# Altium integrated library SparkFun-Connectors.IntLib: 326 symbols (part 3 of 3)
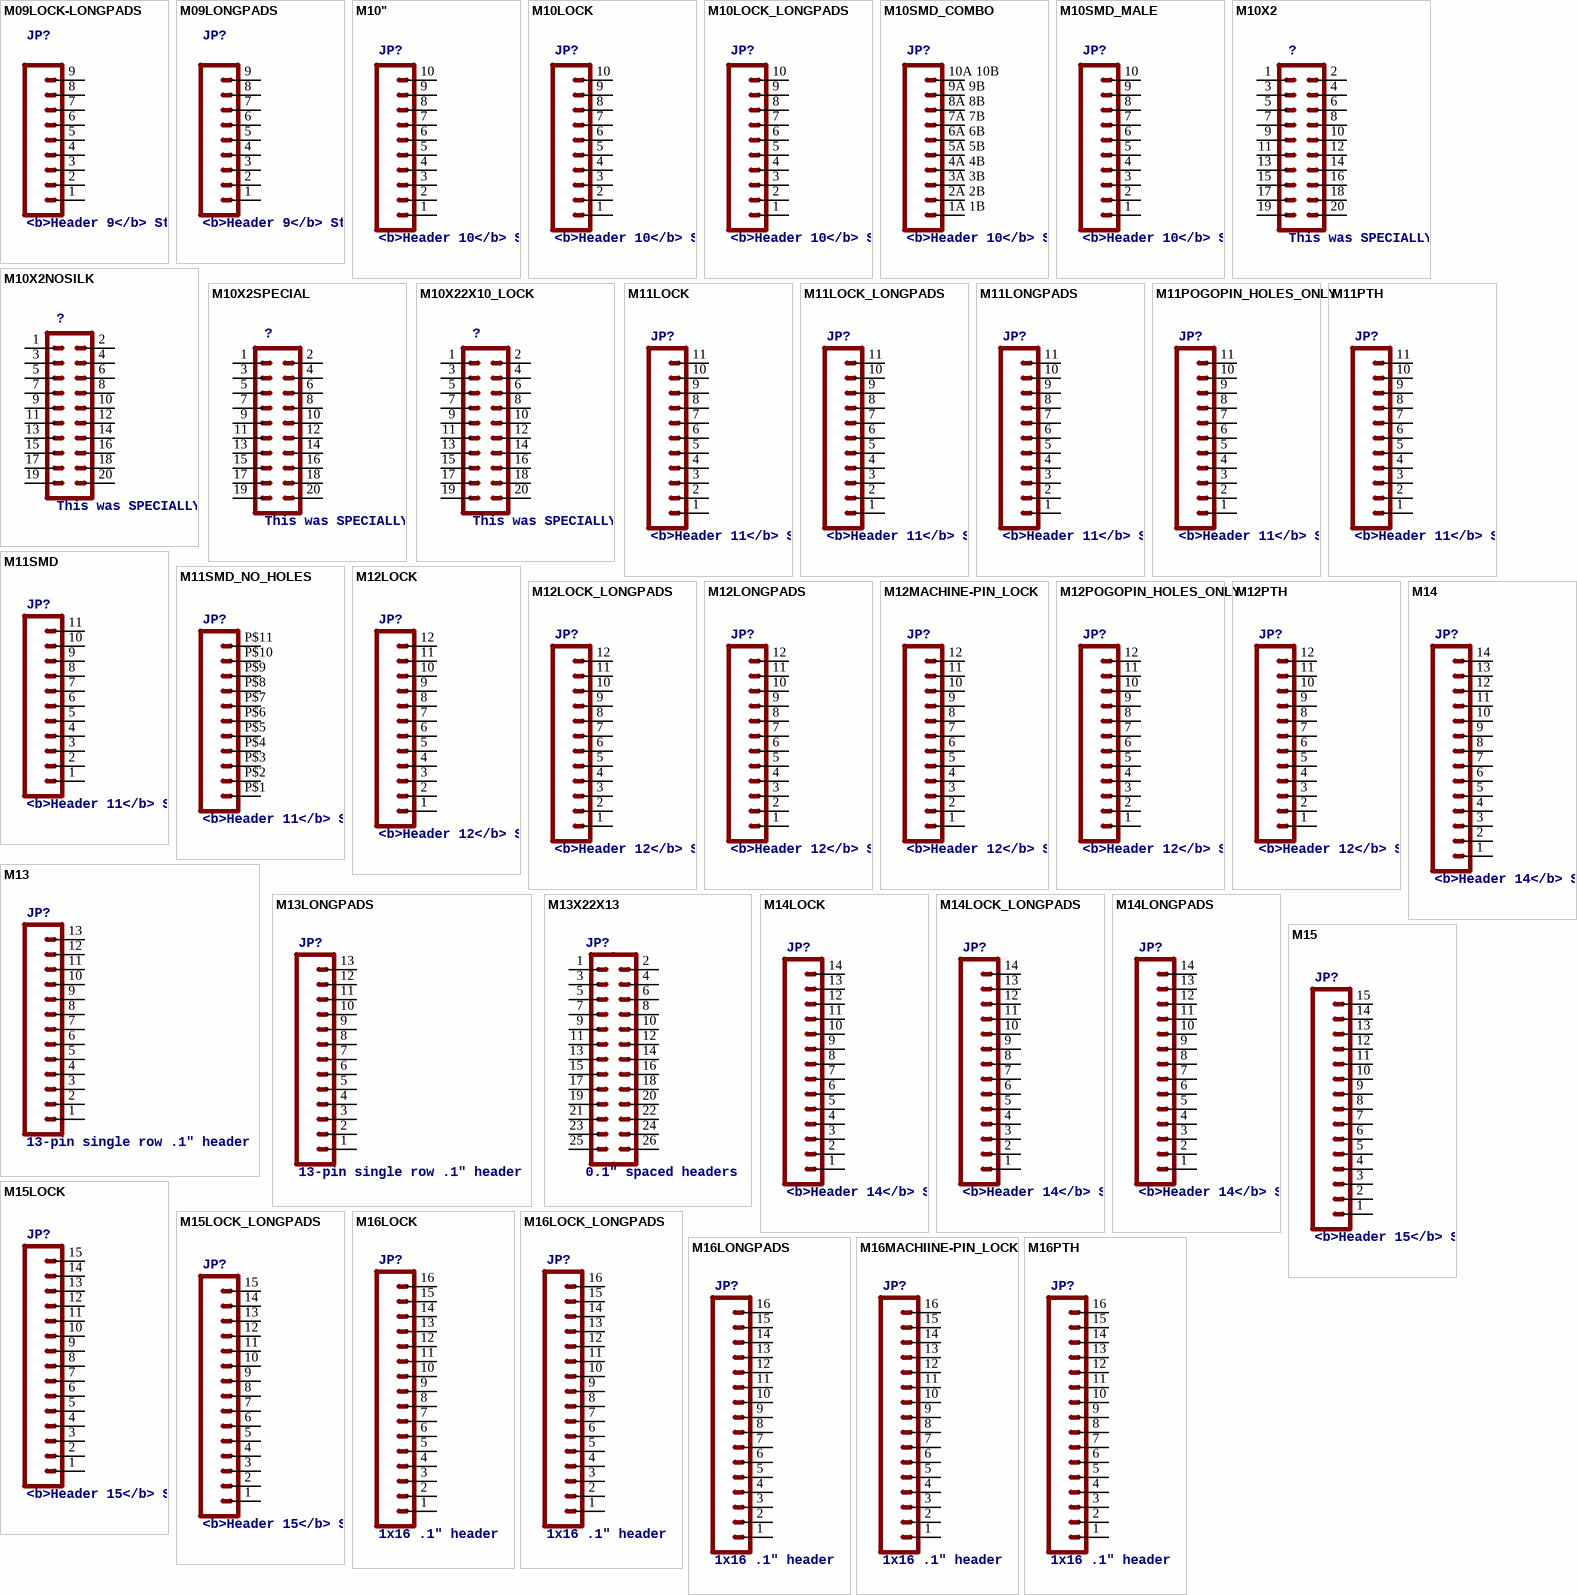
[diagram p11: symbols M09LOCK-LONGPADS to M16PTH]

## M14LONGPADS
designator JP?, comment <b>Header 14</b> / Standard 14-pin 0.1" header. Use with straight break away headers (SKU : PRT-00116), right angle break away headers (PRT-00553), swiss pins (PRT-00743), machine pins (PRT-00117), and female headers (PRT-00115).
footprint 1X14-LONGPADS
pins: 1, 2, 3, 4, 5, 6, 7, 8, 9, 10, 11, 12, 13, 14

## M15
designator JP?, comment <b>Header 15</b> / Standard 15-pin 0.1" header. Use with straight break away headers (SKU : PRT-00116), right angle break away headers (PRT-00553), swiss pins (PRT-00743), machine pins (PRT-00117), and female headers (PRT-00115).
footprint 1X15
pins: 1, 2, 3, 4, 5, 6, 7, 8, 9, 10, 11, 12, 13, 14, 15

## M15LOCK
designator JP?, comment <b>Header 15</b> / Standard 15-pin 0.1" header. Use with straight break away headers (SKU : PRT-00116), right angle break away headers (PRT-00553), swiss pins (PRT-00743), machine pins (PRT-00117), and female headers (PRT-00115).
footprint 1X15_LOCK
pins: 1, 2, 3, 4, 5, 6, 7, 8, 9, 10, 11, 12, 13, 14, 15

## M15LOCK_LONGPADS
designator JP?, comment <b>Header 15</b> / Standard 15-pin 0.1" header. Use with straight break away headers (SKU : PRT-00116), right angle break away headers (PRT-00553), swiss pins (PRT-00743), machine pins (PRT-00117), and female headers (PRT-00115).
footprint 1X15_LOCK_LONGPADS
pins: 1, 2, 3, 4, 5, 6, 7, 8, 9, 10, 11, 12, 13, 14, 15

## M16LOCK
designator JP?, comment 1x16 .1" header
footprint 1X16_LOCK
pins: 1, 2, 3, 4, 5, 6, 7, 8, 9, 10, 11, 12, 13, 14, 15, 16

## M16LOCK_LONGPADS
designator JP?, comment 1x16 .1" header
footprint 1X16_LOCK_LONGPADS
pins: 1, 2, 3, 4, 5, 6, 7, 8, 9, 10, 11, 12, 13, 14, 15, 16

## M16LONGPADS
designator JP?, comment 1x16 .1" header
footprint 1X16_LONGPADS
pins: 1, 2, 3, 4, 5, 6, 7, 8, 9, 10, 11, 12, 13, 14, 15, 16

## M16MACHIINE-PIN_LOCK
designator JP?, comment 1x16 .1" header
footprint 1X16_MACHINE-PIN-HEADER_LOCK.004
pins: 1, 2, 3, 4, 5, 6, 7, 8, 9, 10, 11, 12, 13, 14, 15, 16

## M16PTH
designator JP?, comment 1x16 .1" header
footprint 1X16
pins: 1, 2, 3, 4, 5, 6, 7, 8, 9, 10, 11, 12, 13, 14, 15, 16

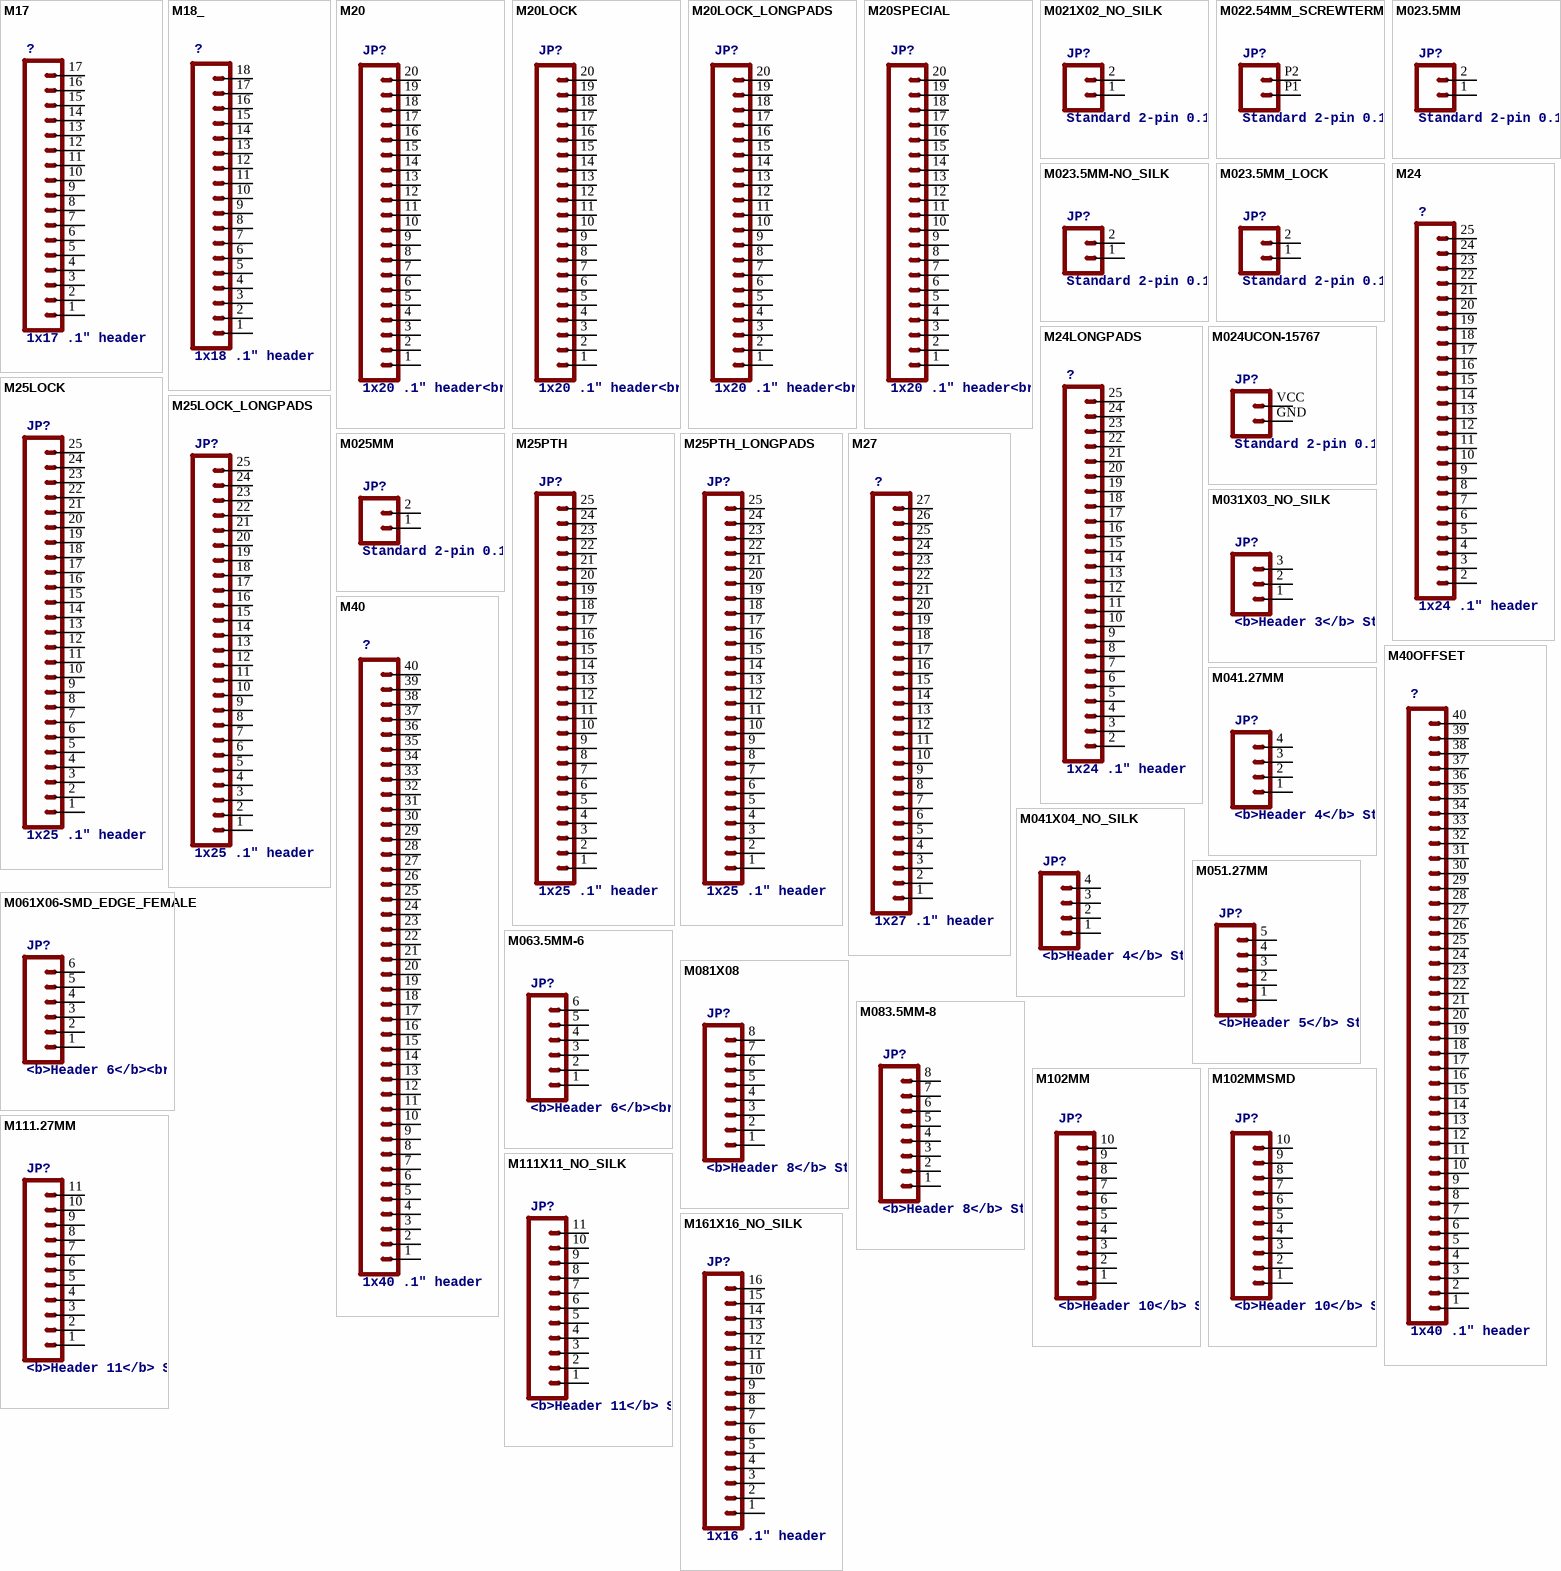
[diagram p6: symbols M17 to M161X16_NO_SILK]

## M17
designator ?, comment 1x17 .1" header
footprint 1X17
pins: 1, 2, 3, 4, 5, 6, 7, 8, 9, 10, 11, 12, 13, 14, 15, 16, 17

## M18_
designator ?, comment 1x18 .1" header
footprint 1X18
pins: 1, 2, 3, 4, 5, 6, 7, 8, 9, 10, 11, 12, 13, 14, 15, 16, 17, 18

## M20
designator JP?, comment 1x20 .1" header<br> / This is just like the LOCK variant in that the holes are staggared by 5 mil, but except for the last two holes.  They are not altered from the "standard" footprint layout.  This is used for a special purpose on the layout of our Graphic LCD Backpack.  Make sure you want to use this device before selecting it for you project!
footprint 1X20
pins: 1, 2, 3, 4, 5, 6, 7, 8, 9, 10, 11, 12, 13, 14, 15, 16, 17, 18, 19, 20

## M20LOCK
designator JP?, comment 1x20 .1" header<br> / This is just like the LOCK variant in that the holes are staggared by 5 mil, but except for the last two holes.  They are not altered from the "standard" footprint layout.  This is used for a special purpose on the layout of our Graphic LCD Backpack.  Make sure you want to use this device before selecting it for you project!
footprint 1X20_LOCK
pins: 1, 2, 3, 4, 5, 6, 7, 8, 9, 10, 11, 12, 13, 14, 15, 16, 17, 18, 19, 20

## M20LOCK_LONGPADS
designator JP?, comment 1x20 .1" header<br> / This is just like the LOCK variant in that the holes are staggared by 5 mil, but except for the last two holes.  They are not altered from the "standard" footprint layout.  This is used for a special purpose on the layout of our Graphic LCD Backpack.  Make sure you want to use this device before selecting it for you project!
footprint 1X20_LOCK_LONGPADS
pins: 1, 2, 3, 4, 5, 6, 7, 8, 9, 10, 11, 12, 13, 14, 15, 16, 17, 18, 19, 20

## M20SPECIAL
designator JP?, comment 1x20 .1" header<br> / This is just like the LOCK variant in that the holes are staggared by 5 mil, but except for the last two holes.  They are not altered from the "standard" footprint layout.  This is used for a special purpose on the layout of our Graphic LCD Backpack.  Make sure you want to use this device before selecting it for you project!
footprint 1X20_LOCK_SPECIAL
pins: 1, 2, 3, 4, 5, 6, 7, 8, 9, 10, 11, 12, 13, 14, 15, 16, 17, 18, 19, 20

## M021X02_NO_SILK
designator JP?, comment Standard 2-pin 0.1" header. Use with <br> / - straight break away headers ( PRT-00116)<br> / - right angle break away headers (PRT-00553)<br> / - swiss pins (PRT-00743)<br> / - machine pins (PRT-00117)<br> / - female headers (PRT-00115)<br><br> / Molex polarized connector foot print use with: PRT-08233 with associated crimp pins and housings.<br><br> / 2.54_SCREWTERM for use with  PRT-10571.<br><br> / 3.5mm Screw Terminal footprints for  PRT-08084<br><br> / 5mm Screw Terminal footprints for use with PRT-08433
footprint 1X02_NO_SILK
pins: 1, 2

## M022.54MM_SCREWTERM
designator JP?, comment Standard 2-pin 0.1" header. Use with <br> / - straight break away headers ( PRT-00116)<br> / - right angle break away headers (PRT-00553)<br> / - swiss pins (PRT-00743)<br> / - machine pins (PRT-00117)<br> / - female headers (PRT-00115)<br><br> / Molex polarized connector foot print use with: PRT-08233 with associated crimp pins and housings.<br><br> / 2.54_SCREWTERM for use with  PRT-10571.<br><br> / 3.5mm Screw Terminal footprints for  PRT-08084<br><br> / 5mm Screw Terminal footprints for use with PRT-08433
footprint 1X02_2.54_SCREWTERM
pins: P1 1, P2 2

## M023.5MM
designator JP?, comment Standard 2-pin 0.1" header. Use with <br> / - straight break away headers ( PRT-00116)<br> / - right angle break away headers (PRT-00553)<br> / - swiss pins (PRT-00743)<br> / - machine pins (PRT-00117)<br> / - female headers (PRT-00115)<br><br> / Molex polarized connector foot print use with: PRT-08233 with associated crimp pins and housings.<br><br> / 2.54_SCREWTERM for use with  PRT-10571.<br><br> / 3.5mm Screw Terminal footprints for  PRT-08084<br><br> / 5mm Screw Terminal footprints for use with PRT-08433
footprint SCREWTERMINAL-3.5MM-2
pins: 1, 2

## M023.5MM-NO_SILK
designator JP?, comment Standard 2-pin 0.1" header. Use with <br> / - straight break away headers ( PRT-00116)<br> / - right angle break away headers (PRT-00553)<br> / - swiss pins (PRT-00743)<br> / - machine pins (PRT-00117)<br> / - female headers (PRT-00115)<br><br> / Molex polarized connector foot print use with: PRT-08233 with associated crimp pins and housings.<br><br> / 2.54_SCREWTERM for use with  PRT-10571.<br><br> / 3.5mm Screw Terminal footprints for  PRT-08084<br><br> / 5mm Screw Terminal footprints for use with PRT-08433
footprint SCREWTERMINAL-3.5MM-2-NS
pins: 1, 2

## M023.5MM_LOCK
designator JP?, comment Standard 2-pin 0.1" header. Use with <br> / - straight break away headers ( PRT-00116)<br> / - right angle break away headers (PRT-00553)<br> / - swiss pins (PRT-00743)<br> / - machine pins (PRT-00117)<br> / - female headers (PRT-00115)<br><br> / Molex polarized connector foot print use with: PRT-08233 with associated crimp pins and housings.<br><br> / 2.54_SCREWTERM for use with  PRT-10571.<br><br> / 3.5mm Screw Terminal footprints for  PRT-08084<br><br> / 5mm Screw Terminal footprints for use with PRT-08433
footprint SCREWTERMINAL-3.5MM-2_LOCK
pins: 1, 2

## M24
designator ?, comment 1x24 .1" header
footprint 1X24
pins: 2, 3, 4, 5, 6, 7, 8, 9, 10, 11, 12, 13, 14, 15, 16, 17, 18, 19, 20, 21, 22, 23, 24, 25

## M24LONGPADS
designator ?, comment 1x24 .1" header
footprint 1X24_LONGPADS
pins: 2, 3, 4, 5, 6, 7, 8, 9, 10, 11, 12, 13, 14, 15, 16, 17, 18, 19, 20, 21, 22, 23, 24, 25

## M024UCON-15767
designator JP?, comment Standard 2-pin 0.1" header. Use with <br> / - straight break away headers ( PRT-00116)<br> / - right angle break away headers (PRT-00553)<br> / - swiss pins (PRT-00743)<br> / - machine pins (PRT-00117)<br> / - female headers (PRT-00115)<br><br> / Molex polarized connector foot print use with: PRT-08233 with associated crimp pins and housings.<br><br> / 2.54_SCREWTERM for use with  PRT-10571.<br><br> / 3.5mm Screw Terminal footprints for  PRT-08084<br><br> / 5mm Screw Terminal footprints for use with PRT-08433
footprint JST-2-SMD-VERT
pins: GND 1, VCC 2

## M25LOCK
designator JP?, comment 1x25 .1" header
footprint 1X25_LOCK
pins: 1, 2, 3, 4, 5, 6, 7, 8, 9, 10, 11, 12, 13, 14, 15, 16, 17, 18, 19, 20, 21, 22, 23, 24, 25

## M25LOCK_LONGPADS
designator JP?, comment 1x25 .1" header
footprint 1X25_LOCK_LONGPADS
pins: 1, 2, 3, 4, 5, 6, 7, 8, 9, 10, 11, 12, 13, 14, 15, 16, 17, 18, 19, 20, 21, 22, 23, 24, 25

## M025MM
designator JP?, comment Standard 2-pin 0.1" header. Use with <br> / - straight break away headers ( PRT-00116)<br> / - right angle break away headers (PRT-00553)<br> / - swiss pins (PRT-00743)<br> / - machine pins (PRT-00117)<br> / - female headers (PRT-00115)<br><br> / Molex polarized connector foot print use with: PRT-08233 with associated crimp pins and housings.<br><br> / 2.54_SCREWTERM for use with  PRT-10571.<br><br> / 3.5mm Screw Terminal footprints for  PRT-08084<br><br> / 5mm Screw Terminal footprints for use with PRT-08433
footprint SCREWTERMINAL-5MM-2
pins: 1, 2

## M25PTH
designator JP?, comment 1x25 .1" header
footprint 1X25
pins: 1, 2, 3, 4, 5, 6, 7, 8, 9, 10, 11, 12, 13, 14, 15, 16, 17, 18, 19, 20, 21, 22, 23, 24, 25

## M25PTH_LONGPADS
designator JP?, comment 1x25 .1" header
footprint 1X25_LONGPAD
pins: 1, 2, 3, 4, 5, 6, 7, 8, 9, 10, 11, 12, 13, 14, 15, 16, 17, 18, 19, 20, 21, 22, 23, 24, 25

## M27
designator ?, comment 1x27 .1" header
footprint 1X27
pins: 1, 2, 3, 4, 5, 6, 7, 8, 9, 10, 11, 12, 13, 14, 15, 16, 17, 18, 19, 20, 21, 22, 23, 24, 25, 26, 27

## M031X03_NO_SILK
designator JP?, comment <b>Header 3</b> / Standard 3-pin 0.1" header. Use with straight break away headers (SKU : PRT-00116), right angle break away headers (PRT-00553), swiss pins (PRT-00743), machine pins (PRT-00117), and female headers (PRT-00115). Molex polarized connector foot print use with SKU : PRT-08232 with associated crimp pins and housings.
footprint 1X03_NO_SILK
pins: 1, 2, 3

## M40
designator ?, comment 1x40 .1" header
footprint 1X40
pins: 1, 2, 3, 4, 5, 6, 7, 8, 9, 10, 11, 12, 13, 14, 15, 16, 17, 18, 19, 20, 21, 22, 23, 24, 25, 26, 27, 28, 29, 30, 31, 32, 33, 34, 35, 36, 37, 38, 39, 40

## M40OFFSET
designator ?, comment 1x40 .1" header
footprint 1X40_OFFSET
pins: 1, 2, 3, 4, 5, 6, 7, 8, 9, 10, 11, 12, 13, 14, 15, 16, 17, 18, 19, 20, 21, 22, 23, 24, 25, 26, 27, 28, 29, 30, 31, 32, 33, 34, 35, 36, 37, 38, 39, 40

## M041.27MM
designator JP?, comment <b>Header 4</b> / Standard 4-pin 0.1" header. Use with straight break away headers (SKU : PRT-00116), right angle break away headers (PRT-00553), swiss pins (PRT-00743), machine pins (PRT-00117), and female headers (PRT-00115). Molex polarized connector foot print use with SKU : PRT-08231 with associated crimp pins and housings. 1MM SMD Version SKU: PRT-10208
footprint 1X04-1.27MM
pins: 1, 2, 3, 4

## M041X04_NO_SILK
designator JP?, comment <b>Header 4</b> / Standard 4-pin 0.1" header. Use with straight break away headers (SKU : PRT-00116), right angle break away headers (PRT-00553), swiss pins (PRT-00743), machine pins (PRT-00117), and female headers (PRT-00115). Molex polarized connector foot print use with SKU : PRT-08231 with associated crimp pins and housings. 1MM SMD Version SKU: PRT-10208
footprint 1X04_NO_SILK
pins: 1, 2, 3, 4

## M051.27MM
designator JP?, comment <b>Header 5</b> / Standard 5-pin 0.1" header. Use with straight break away headers (SKU : PRT-00116), right angle break away headers (PRT-00553), swiss pins (PRT-00743), machine pins (PRT-00117), and female headers (PRT-00115). Molex polarized connector foot print use with SKU : PRT-08230 with associated crimp pins and housings.
footprint 1X05-1.27MM
pins: 1, 2, 3, 4, 5

## M061X06-SMD_EDGE_FEMALE
designator JP?, comment <b>Header 6</b><br> / Standard 6-pin 0.1" header. Use with straight break away headers (SKU : PRT-00116), right angle break away headers (PRT-00553), swiss pins (PRT-00743), machine pins (PRT-00117), and female headers (PRT-00115). Molex polarized connector foot print use with SKU : PRT-08094 with associated crimp pins and housings.<p> / NOTES ON THE VARIANTS LOCK and LOCK_LONGPADS... / This footprint was designed to help hold the alignment of a through-hole component (i.e.  6-pin header) while soldering it into place. You may notice that each hole has been shifted either up or down by 0.005 of an inch from it's more standard position (which is a perfectly straight line).  This slight alteration caused the pins (the squares in the middle) to touch the edges of the holes.  Because they are alternating, it causes a "brace" to hold the component in place.  0.005 has proven to be the perfect amount of "off-center" position when using our standard breakaway headers. Although looks a little odd when you look at the bare footprint, once you have a header in there, the alteration is very hard to notice.  Also,if you push a header all the way into place, it is covered up entirely on the bottom side.  This idea of altering the position of holes to aid alignment / will be further integrated into the Sparkfun Library for other footprints.  It can help hold any component with 3 or more connection pins.
footprint 1X06-SMD_EDGE
pins: 1, 2, 3, 4, 5, 6

## M063.5MM-6
designator JP?, comment <b>Header 6</b><br> / Standard 6-pin 0.1" header. Use with straight break away headers (SKU : PRT-00116), right angle break away headers (PRT-00553), swiss pins (PRT-00743), machine pins (PRT-00117), and female headers (PRT-00115). Molex polarized connector foot print use with SKU : PRT-08094 with associated crimp pins and housings.<p> / NOTES ON THE VARIANTS LOCK and LOCK_LONGPADS... / This footprint was designed to help hold the alignment of a through-hole component (i.e.  6-pin header) while soldering it into place. You may notice that each hole has been shifted either up or down by 0.005 of an inch from it's more standard position (which is a perfectly straight line).  This slight alteration caused the pins (the squares in the middle) to touch the edges of the holes.  Because they are alternating, it causes a "brace" to hold the component in place.  0.005 has proven to be the perfect amount of "off-center" position when using our standard breakaway headers. Although looks a little odd when you look at the bare footprint, once you have a header in there, the alteration is very hard to notice.  Also,if you push a header all the way into place, it is covered up entirely on the bottom side.  This idea of altering the position of holes to aid alignment / will be further integrated into the Sparkfun Library for other footprints.  It can help hold any component with 3 or more connection pins.
footprint SCREWTERMINAL-3.5MM-6
pins: 1, 2, 3, 4, 5, 6

## M081X08
designator JP?, comment <b>Header 8</b> / Standard 8-pin 0.1" header. Use with straight break away headers (SKU : PRT-00116), right angle break away headers (PRT-00553), swiss pins (PRT-00743), machine pins (PRT-00117), and female headers (PRT-00115).
footprint 1X08
pins: 1, 2, 3, 4, 5, 6, 7, 8

## M083.5MM-8
designator JP?, comment <b>Header 8</b> / Standard 8-pin 0.1" header. Use with straight break away headers (SKU : PRT-00116), right angle break away headers (PRT-00553), swiss pins (PRT-00743), machine pins (PRT-00117), and female headers (PRT-00115).
footprint SCREWTERMINAL-3.5MM-8
pins: 1, 2, 3, 4, 5, 6, 7, 8

## M102MM
designator JP?, comment <b>Header 10</b> / Standard 10-pin 0.1" header. Use with straight break away headers (SKU : PRT-00116), right angle break away headers (PRT-00553), swiss pins (PRT-00743), machine pins (PRT-00117), and female headers (PRT-00115).
footprint 1X10-2MM
pins: 1, 2, 3, 4, 5, 6, 7, 8, 9, 10

## M102MMSMD
designator JP?, comment <b>Header 10</b> / Standard 10-pin 0.1" header. Use with straight break away headers (SKU : PRT-00116), right angle break away headers (PRT-00553), swiss pins (PRT-00743), machine pins (PRT-00117), and female headers (PRT-00115).
footprint 1X10-2MM-SMD
pins: 1, 2, 3, 4, 5, 6, 7, 8, 9, 10

## M111.27MM
designator JP?, comment <b>Header 11</b> / Standard 11-pin 0.1" header. Use with straight break away headers (SKU : PRT-00116), right angle break away headers (PRT-00553), swiss pins (PRT-00743), machine pins (PRT-00117), and female headers (PRT-00115).
footprint 1X11-1.27MM
pins: 1, 2, 3, 4, 5, 6, 7, 8, 9, 10, 11

## M111X11_NO_SILK
designator JP?, comment <b>Header 11</b> / Standard 11-pin 0.1" header. Use with straight break away headers (SKU : PRT-00116), right angle break away headers (PRT-00553), swiss pins (PRT-00743), machine pins (PRT-00117), and female headers (PRT-00115).
footprint 1X11_NO_SILK
pins: 1, 2, 3, 4, 5, 6, 7, 8, 9, 10, 11

## M161X16_NO_SILK
designator JP?, comment 1x16 .1" header
footprint 1X16_NO_SILK
pins: 1, 2, 3, 4, 5, 6, 7, 8, 9, 10, 11, 12, 13, 14, 15, 16

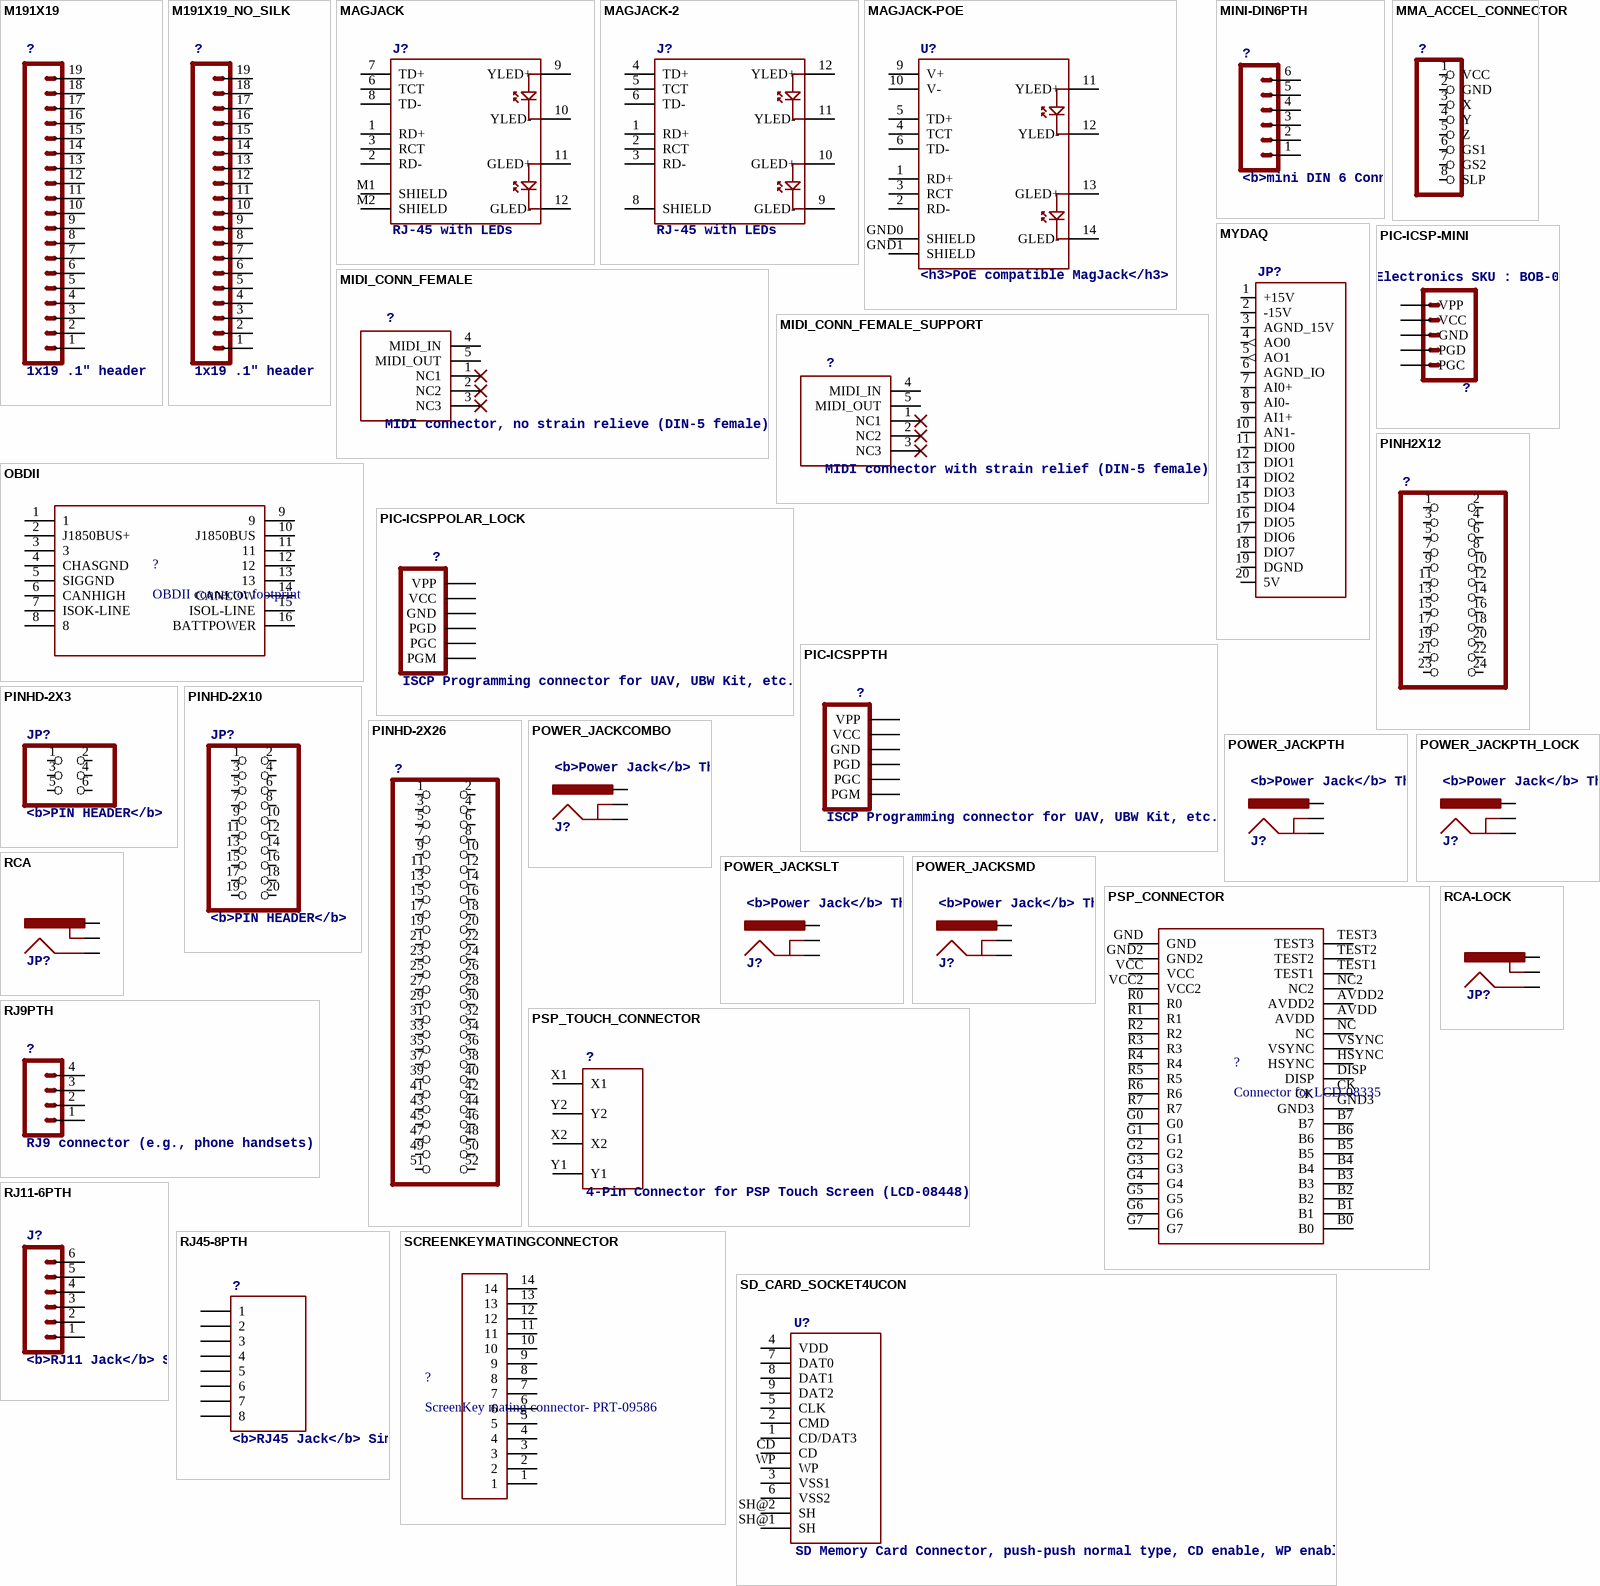
[diagram p7: symbols M191X19 to SD_CARD_SOCKET4UCON]

## M191X19
designator ?, comment 1x19 .1" header
footprint 1X19
pins: 1, 2, 3, 4, 5, 6, 7, 8, 9, 10, 11, 12, 13, 14, 15, 16, 17, 18, 19

## M191X19_NO_SILK
designator ?, comment 1x19 .1" header
footprint 1X19_NO_SILK
pins: 1, 2, 3, 4, 5, 6, 7, 8, 9, 10, 11, 12, 13, 14, 15, 16, 17, 18, 19

## MAGJACK
designator J?, comment RJ-45 with LEDs
footprint MAGJACK
pins: 1 RD+, 2 RD-, 3 RCT, 6 TCT, 7 TD+, 8 TD-, 9 YLED+, 10 YLED-, 11 GLED+, 12 GLED-, M1 SHIELD, M2 SHIELD

## MAGJACK-2
designator J?, comment RJ-45 with LEDs
footprint MAGJACK-19938
pins: 1 RD+, 2 RCT, 3 RD-, 4 TD+, 5 TCT, 6 TD-, 8 SHIELD, 9 GLED-, 10 GLED+, 11 YLED-, 12 YLED+

## MAGJACK-POE
designator U?, comment <h3>PoE compatible MagJack</h3>
footprint MAGJACK-POE
pins: 1 RD+, 2 RD-, 3 RCT, 4 TCT, 5 TD+, 6 TD-, 9 V+, 10 V-, 11 YLED+, 12 YLED-, 13 GLED+, 14 GLED-, GND0 SHIELD, GND1 SHIELD

## MIDI_CONN_FEMALE
designator ?, comment MIDI connector, no strain relieve (DIN-5 female)
footprint DIN_5_FEMALE
pins: 1 NC1, 2 NC2, 3 NC3, 4 MIDI_IN, 5 MIDI_OUT

## MIDI_CONN_FEMALE_SUPPORT
designator ?, comment MIDI connector with strain relief (DIN-5 female)
footprint DIN_5_FEMALE_SUPPORT
pins: 1 NC1, 2 NC2, 3 NC3, 4 MIDI_IN, 5 MIDI_OUT

## MINI-DIN6PTH
designator ?, comment <b>mini DIN 6 Connector</b> / Commonly found on the back of a computer for PS2 keyboard and mice. Schematic and footprint are proven. Spark Fun Electronics SKU : PRT-08509
footprint MINI-DIN6
pins: 1, 2, 3, 4, 5, 6

## MMA_ACCEL_CONNECTOR
designator ?
footprint 1X08
pins: 1 VCC, 2 GND, 3 X, 4 Y, 5 Z, 6 GS1, 7 GS2, 8 SLP

## MYDAQ
designator JP?
footprint 3.81MM_TERMINAL_BLOCK_FEMALE_LOCKING
pins: 1 +15V (power), 2 -15V (power), 3 AGND_15V (power), 4 AO0 (out), 5 AO1 (out), 6 AGND_IO (power), 7 AI0+, 8 AI0-, 9 AI1+, 10 AN1-, 11 DIO0, 12 DIO1, 13 DIO2, 14 DIO3, 15 DIO4, 16 DIO5, 17 DIO6, 18 DIO7, 19 DGND (power), 20 5V (power)

## OBDII
designator ?, comment OBDII connector footprint
footprint OBDII
pins: 1, 2 J1850BUS+, 3, 4 CHASGND, 5 SIGGND, 6 CANHIGH, 7 ISOK-LINE, 8, 9, 10 J1850BUS, 11, 12, 13, 14 CANLOW, 15 ISOL-LINE, 16 BATTPOWER

## PIC-ICSP-MINI
designator ?, comment <b>PIC-ICSP-Mini</b> / Miniature 5-pin connection for temporary programming of PICs. Use this device in your design to save space. Program the PIC with this adapter Spark Fun Electronics SKU : BOB-00194
footprint PIC-ICSP-MINI
pins: 1 VPP, 2 VCC, 3 GND, 4 PGD, 5 PGC

## PIC-ICSPPOLAR_LOCK
designator ?, comment ISCP Programming connector for UAV, UBW Kit, etc.
footprint MOLEX-1X6_LOCK
pins: 1 PGM, 2 PGC, 3 PGD, 4 GND, 5 VCC, 6 VPP

## PIC-ICSPPTH
designator ?, comment ISCP Programming connector for UAV, UBW Kit, etc.
footprint MOLEX-1X6
pins: 1 PGM, 2 PGC, 3 PGD, 4 GND, 5 VCC, 6 VPP

## PINH2X12
designator ?
footprint 2X12
pins: 1, 2, 3, 4, 5, 6, 7, 8, 9, 10, 11, 12, 13, 14, 15, 16, 17, 18, 19, 20, 21, 22, 23, 24

## PINHD-2X3
designator JP?, comment <b>PIN HEADER</b>
footprint 2X03
pins: 1, 2, 3, 4, 5, 6

## PINHD-2X10
designator JP?, comment <b>PIN HEADER</b>
footprint 2X10
pins: 1, 2, 3, 4, 5, 6, 7, 8, 9, 10, 11, 12, 13, 14, 15, 16, 17, 18, 19, 20

## PINHD-2X26
designator ?
footprint 2X26
pins: 1, 2, 3, 4, 5, 6, 7, 8, 9, 10, 11, 12, 13, 14, 15, 16, 17, 18, 19, 20, 21, 22, 23, 24, 25, 26, 27, 28, 29, 30, 31, 32, 33, 34, 35, 36, 37, 38, 39, 40, 41, 42, 43, 44, 45, 46, 47, 48, 49, 50, 51, 52

## POWER_JACKCOMBO
designator J?, comment <b>Power Jack</b> / This is the standard 5.5mm barrel jack for power.<br> / The PTH is the most common, proven, reliable, footprint.<br> / The Slot footprint only works if the mill layer is transmitted to the PCB fab house so be warned.<br> / Spark Fun Electronics SKU : PRT-00119<br> / SMT: CONN-08106<br> / Mating wall wart : TOL-00298 (and others)
footprint POWER_JACK_COMBO
pins: GND GNDBREAK, GND@1 GND, POWER PWR

## POWER_JACKPTH
designator J?, comment <b>Power Jack</b> / This is the standard 5.5mm barrel jack for power.<br> / The PTH is the most common, proven, reliable, footprint.<br> / The Slot footprint only works if the mill layer is transmitted to the PCB fab house so be warned.<br> / Spark Fun Electronics SKU : PRT-00119<br> / SMT: CONN-08106<br> / Mating wall wart : TOL-00298 (and others)
footprint POWER_JACK_PTH
pins: GND, GNDBREAK, PWR

## POWER_JACKPTH_LOCK
designator J?, comment <b>Power Jack</b> / This is the standard 5.5mm barrel jack for power.<br> / The PTH is the most common, proven, reliable, footprint.<br> / The Slot footprint only works if the mill layer is transmitted to the PCB fab house so be warned.<br> / Spark Fun Electronics SKU : PRT-00119<br> / SMT: CONN-08106<br> / Mating wall wart : TOL-00298 (and others)
footprint POWER_JACK_PTH_LOCK
pins: GND, GNDBREAK, PWR

## POWER_JACKSLT
designator J?, comment <b>Power Jack</b> / This is the standard 5.5mm barrel jack for power.<br> / The PTH is the most common, proven, reliable, footprint.<br> / The Slot footprint only works if the mill layer is transmitted to the PCB fab house so be warned.<br> / Spark Fun Electronics SKU : PRT-00119<br> / SMT: CONN-08106<br> / Mating wall wart : TOL-00298 (and others)
footprint POWER_JACK_SLOT
pins: GND@1 GNDBREAK, GND@2 GND, PWR

## POWER_JACKSMD
designator J?, comment <b>Power Jack</b> / This is the standard 5.5mm barrel jack for power.<br> / The PTH is the most common, proven, reliable, footprint.<br> / The Slot footprint only works if the mill layer is transmitted to the PCB fab house so be warned.<br> / Spark Fun Electronics SKU : PRT-00119<br> / SMT: CONN-08106<br> / Mating wall wart : TOL-00298 (and others)
PROD_ID: CONN-08106
footprint POWER_JACK_SMD
pins: GND GNDBREAK, P$4 GND, VIN0 PWR

## PSP_CONNECTOR
designator ?, comment Connector for LCD-08335
footprint PSP_CONNECTOR
pins: AVDD, AVDD2, B0, B1, B2, B3, B4, B5, B6, B7, CK, DISP, G0, G1, G2, G3, G4, G5, G6, G7, GND, GND2, GND3, HSYNC, NC, NC2, R0, R1, R2, R3, R4, R5, R6, R7, TEST1, TEST2, TEST3, VCC, VCC2, VSYNC

## PSP_TOUCH_CONNECTOR
designator ?, comment 4-Pin Connector for PSP Touch Screen (LCD-08448)
footprint PSP_TOUCH_CONNECTOR
pins: X1, X2, Y1, Y2

## RCA
designator JP?
footprint RCA
pins: PIN, SHELL, SWITCH

## RCA-LOCK
designator JP?
footprint RCA_LOCK
pins: PIN, SHELL, SWITCH

## RJ9PTH
designator ?, comment RJ9 connector (e.g., phone handsets)
footprint RJ9
pins: 1, 2, 3, 4

## RJ11-6PTH
designator J?, comment <b>RJ11 Jack</b> / Simple 6 pin RJ11 jack. Commonly found on CAT3 devices and Microchip programmers. SKU: PRT-00132
footprint RJ11-6
pins: 1, 2, 3, 4, 5, 6

## RJ45-8PTH
designator ?, comment <b>RJ45 Jack</b> / Simple RJ45, 8-pin connection - connector for common Cat5, Cat5e, and Cat6 Ethernet cables. Footprint not yet proven in production. Connector sku is PRT-00643; Breakout PCB sku is BOB-00716.
footprint RJ45-8
pins: 1, 2, 3, 4, 5, 6, 7, 8

## SCREENKEYMATINGCONNECTOR
designator ?, comment ScreenKey mating connector- PRT-09586
footprint SCREENKEYMATINGCONNECTOR
pins: 1, 2, 3, 4, 5, 6, 7, 8, 9, 10, 11, 12, 13, 14

## SD_CARD_SOCKET4UCON
designator U?, comment SD Memory Card Connector, push-push normal type, CD enable, WP enable
footprint SDCARD_4UCONN
pins: 1 CD/DAT3, 2 CMD, 3 VSS1 (power), 4 VDD (power), 5 CLK, 6 VSS2 (power), 7 DAT0, 8 DAT1, 9 DAT2, CD, SH@1 SH, SH@2 SH, WP

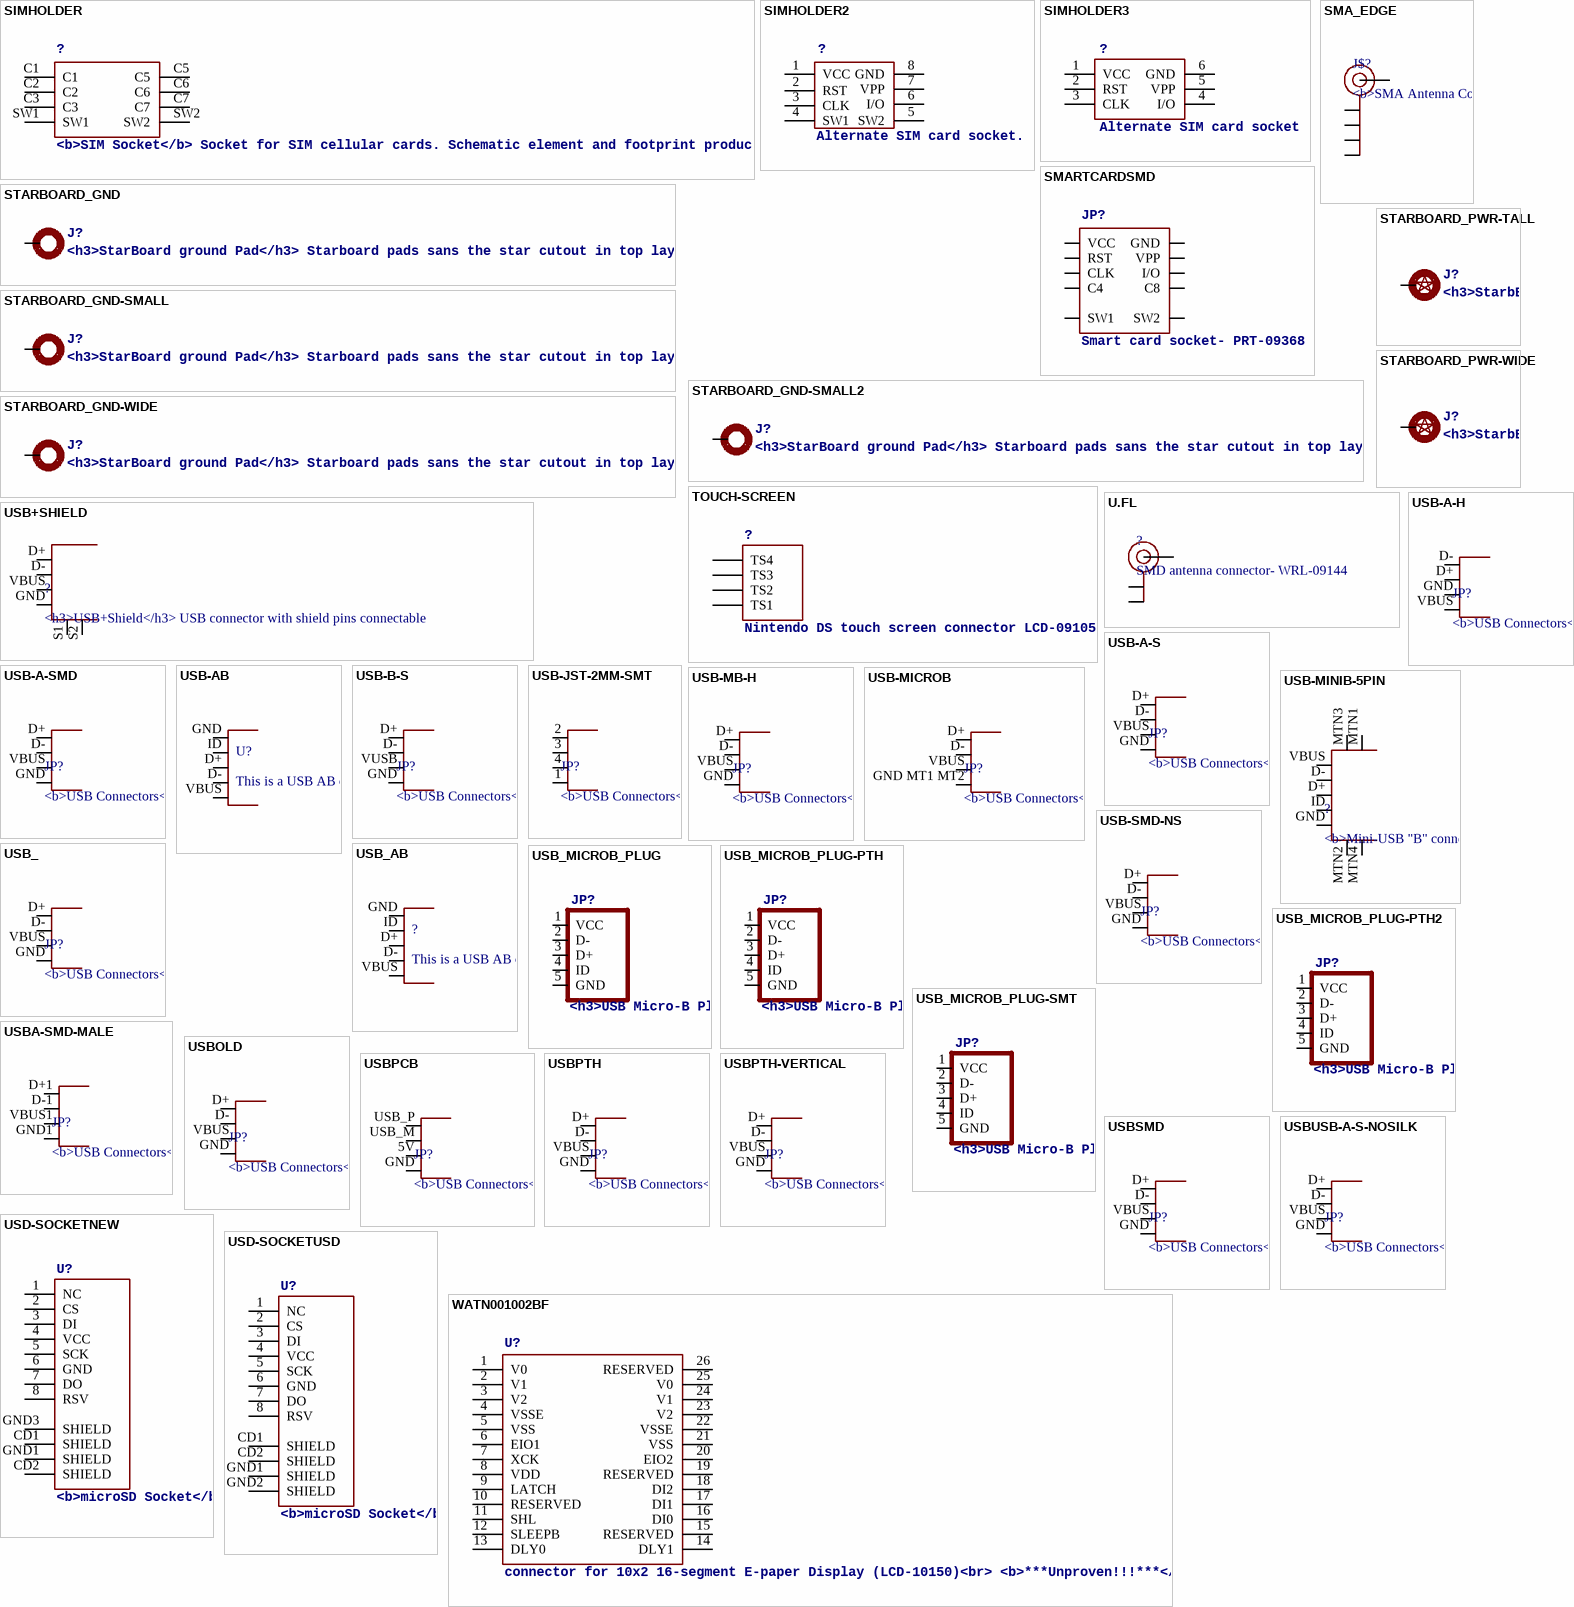
[diagram p8: symbols SIMHOLDER to WATN001002BF]

## SIMHOLDER
designator ?, comment <b>SIM Socket</b> / Socket for SIM cellular cards. Schematic element and footprint production proven. Spark Fun Electronics SKU : PRT-00548
footprint SIMHOLDER
pins: C1, C2, C3, C5, C6, C7, SW1, SW2

## SIMHOLDER2
designator ?, comment Alternate SIM card socket.
footprint SIMHOLDER2
pins: 1 VCC, 2 RST, 3 CLK, 4 SW1, 5 SW2, 6 I/O, 7 VPP, 8 GND

## SIMHOLDER3
designator ?, comment Alternate SIM card socket
footprint SIMHOLDER3
pins: 1 VCC, 2 RST, 3 CLK, 4 I/O, 5 VPP, 6 GND

## SMA_EDGE
designator J$?, comment <b>SMA Antenna Connector</b> / End launch SMA connector. The paste layer has been removed so that the connector can be hand soldered onto the board after reflow.
footprint SMA-EDGE
pins: GND@0 GND, GND@1 GND, GND@2 GND, GND@3 GND, SIG SIGNAL

## SMARTCARDSMD
designator JP?, comment Smart card socket- PRT-09368
footprint SMARTCARD
pins: C1 VCC, C2 RST, C3 CLK, C4, C5 GND, C6 VPP, C7 I/O, C8, P1 SW1, P2 SW2

## STARBOARD_GND
designator J?, comment <h3>StarBoard ground Pad</h3> / Starboard pads sans the star cutout in top layer
footprint STARBOARD_GROUND
pins: GROUND MOUNT

## STARBOARD_GND-SMALL
designator J?, comment <h3>StarBoard ground Pad</h3> / Starboard pads sans the star cutout in top layer
footprint STARBOARD_GROUND_SMALL
pins: GROUND MOUNT

## STARBOARD_GND-SMALL2
designator J?, comment <h3>StarBoard ground Pad</h3> / Starboard pads sans the star cutout in top layer
footprint STARBOARD_GROUND_SMALL2
pins: GROUND MOUNT

## STARBOARD_GND-WIDE
designator J?, comment <h3>StarBoard ground Pad</h3> / Starboard pads sans the star cutout in top layer
footprint STARBOARD_GROUND_WIDE
pins: GROUND MOUNT

## STARBOARD_PWR-TALL
designator J?, comment <h3>StarbBoard Power pad</h3> / Power pads are designated by the star cutout in the top layer.
footprint STARBOARD_PWR
pins: PWR MOUNT

## STARBOARD_PWR-WIDE
designator J?, comment <h3>StarbBoard Power pad</h3> / Power pads are designated by the star cutout in the top layer.
footprint STARBOARD_PWR_WIDE
pins: GROUND MOUNT

## TOUCH-SCREEN
designator ?, comment Nintendo DS touch screen connector LCD-09105
footprint TOUCH-SCREEN
pins: P$1 TS4, P$2 TS3, P$3 TS2, P$4 TS1

## U.FL
designator ?, comment SMD antenna connector- WRL-09144
footprint U.FL
pins: P$1 GND, P$2 GND, P$3 SIGNAL

## USB+SHIELD
designator ?, comment <h3>USB+Shield</h3> / USB connector with shield pins connectable
footprint USB-B-PTH
pins: D+, D-, GND, S1 P$1, S2 P$2, VBUS

## USB-A-H
designator JP?, comment <b>USB Connectors</b> / <p>USB-B-PTH is fully proven SKU : PRT-00139/CONN-08278 / <p>USB-miniB is fully proven SKU : PRT-00587 / <p>USB-A-PCB is untested. / <p>USB-A-H is throughly reviewed, but untested. Spark Fun Electronics SKU : PRT-00437 / <p>USB-B-SMT is throughly reviewed, but untested. Needs silkscreen touching up. / <p>USB-A-S has not been used/tested / <p>USB-MB-H has not been used/tested / <P>USB-MICROB has been used. CONN-09505
footprint USB-A-H
pins: D+ D-, D- D+, GND VBUS, VBUS GND

## USB-A-S
designator JP?, comment <b>USB Connectors</b> / <p>USB-B-PTH is fully proven SKU : PRT-00139/CONN-08278 / <p>USB-miniB is fully proven SKU : PRT-00587 / <p>USB-A-PCB is untested. / <p>USB-A-H is throughly reviewed, but untested. Spark Fun Electronics SKU : PRT-00437 / <p>USB-B-SMT is throughly reviewed, but untested. Needs silkscreen touching up. / <p>USB-A-S has not been used/tested / <p>USB-MB-H has not been used/tested / <P>USB-MICROB has been used. CONN-09505
footprint USB-A-S
pins: D+, D-, GND, VBUS

## USB-A-SMD
designator JP?, comment <b>USB Connectors</b> / <p>USB-B-PTH is fully proven SKU : PRT-00139/CONN-08278 / <p>USB-miniB is fully proven SKU : PRT-00587 / <p>USB-A-PCB is untested. / <p>USB-A-H is throughly reviewed, but untested. Spark Fun Electronics SKU : PRT-00437 / <p>USB-B-SMT is throughly reviewed, but untested. Needs silkscreen touching up. / <p>USB-A-S has not been used/tested / <p>USB-MB-H has not been used/tested / <P>USB-MICROB has been used. CONN-09505
PROD_ID: CONN-09520
footprint USB-A-S-NOSILK-FEMALE
pins: D+, D-, GND, VBUS

## USB-AB
designator U?, comment This is a USB AB connector that is compatible with USB OTG. i.e. this connector can serve as a host or device
footprint USB-AB-MICRO-SMD
pins: D+, D-, GND, ID USBID, VBUS

## USB-B-S
designator JP?, comment <b>USB Connectors</b> / <p>USB-B-PTH is fully proven SKU : PRT-00139/CONN-08278 / <p>USB-miniB is fully proven SKU : PRT-00587 / <p>USB-A-PCB is untested. / <p>USB-A-H is throughly reviewed, but untested. Spark Fun Electronics SKU : PRT-00437 / <p>USB-B-SMT is throughly reviewed, but untested. Needs silkscreen touching up. / <p>USB-A-S has not been used/tested / <p>USB-MB-H has not been used/tested / <P>USB-MICROB has been used. CONN-09505
footprint USB-B-SMT
pins: D+, D-, GND, VUSB VBUS

## USB-JST-2MM-SMT
designator JP?, comment <b>USB Connectors</b> / <p>USB-B-PTH is fully proven SKU : PRT-00139/CONN-08278 / <p>USB-miniB is fully proven SKU : PRT-00587 / <p>USB-A-PCB is untested. / <p>USB-A-H is throughly reviewed, but untested. Spark Fun Electronics SKU : PRT-00437 / <p>USB-B-SMT is throughly reviewed, but untested. Needs silkscreen touching up. / <p>USB-A-S has not been used/tested / <p>USB-MB-H has not been used/tested / <P>USB-MICROB has been used. CONN-09505
footprint S4B-PH
pins: 1 GND, 2 D+, 3 D-, 4 VBUS

## USB-MB-H
designator JP?, comment <b>USB Connectors</b> / <p>USB-B-PTH is fully proven SKU : PRT-00139/CONN-08278 / <p>USB-miniB is fully proven SKU : PRT-00587 / <p>USB-A-PCB is untested. / <p>USB-A-H is throughly reviewed, but untested. Spark Fun Electronics SKU : PRT-00437 / <p>USB-B-SMT is throughly reviewed, but untested. Needs silkscreen touching up. / <p>USB-A-S has not been used/tested / <p>USB-MB-H has not been used/tested / <P>USB-MICROB has been used. CONN-09505
footprint USB-MB-H
pins: D+, D-, GND, VBUS

## USB-MICROB
designator JP?, comment <b>USB Connectors</b> / <p>USB-B-PTH is fully proven SKU : PRT-00139/CONN-08278 / <p>USB-miniB is fully proven SKU : PRT-00587 / <p>USB-A-PCB is untested. / <p>USB-A-H is throughly reviewed, but untested. Spark Fun Electronics SKU : PRT-00437 / <p>USB-B-SMT is throughly reviewed, but untested. Needs silkscreen touching up. / <p>USB-A-S has not been used/tested / <p>USB-MB-H has not been used/tested / <P>USB-MICROB has been used. CONN-09505
PROD_ID: CONN-09505
footprint USB-MICROB
pins: D+, D-, GND MT1 MT2 GND, VBUS

## USB-MINIB-5PIN
designator ?, comment <b>Mini-USB "B" connector with 5th pin broken out.</b><p> / Created new symbol breaking out 5th "ID" pin in mini/micro USB connector spec.  See: http://en.wikipedia.org/wiki/Mini_usb#Cables.  Uses same footprint as 4-pin symbol.<p> / Also added pins to connect to mounting / shield pads if required (probably not generally needed as signals aren't shielded once they leave the connector).
footprint USB-MINIB
pins: D+, D-, GND, ID, MTN1 MTN2, MTN2 MTN3, MTN3 MTN1, MTN4, VBUS

## USB-SMD-NS
designator JP?, comment <b>USB Connectors</b> / <p>USB-B-PTH is fully proven SKU : PRT-00139/CONN-08278 / <p>USB-miniB is fully proven SKU : PRT-00587 / <p>USB-A-PCB is untested. / <p>USB-A-H is throughly reviewed, but untested. Spark Fun Electronics SKU : PRT-00437 / <p>USB-B-SMT is throughly reviewed, but untested. Needs silkscreen touching up. / <p>USB-A-S has not been used/tested / <p>USB-MB-H has not been used/tested / <P>USB-MICROB has been used. CONN-09505
footprint USB-MINIB-NOSTOP
pins: D+, D-, GND, VBUS

## USB_
designator JP?, comment <b>USB Connectors</b> / <p>USB-B-PTH is fully proven SKU : PRT-00139/CONN-08278 / <p>USB-miniB is fully proven SKU : PRT-00587 / <p>USB-A-PCB is untested. / <p>USB-A-H is throughly reviewed, but untested. Spark Fun Electronics SKU : PRT-00437 / <p>USB-B-SMT is throughly reviewed, but untested. Needs silkscreen touching up. / <p>USB-A-S has not been used/tested / <p>USB-MB-H has not been used/tested / <P>USB-MICROB has been used. CONN-09505
footprint USB-A-S-SILK-FEMALE
pins: D+, D-, GND, VBUS

## USB_AB
designator ?, comment This is a USB AB connector that is compatible with USB OTG. i.e. this connector can serve as a host or device
footprint USB-AB-MICRO-SMD
pins: D+, D-, GND, ID USBID, VBUS

## USB_MICROB_PLUG
designator JP?, comment <h3>USB Micro-B Plug</h3> / Comes in a variety of packages.  Check out Hirose's ZX-x0 line: http://www.hirose.co.jp/cataloge_hp/e24200011.pdf
footprint MICRO-B-RA-SMT
pins: 1 VCC, 2 D-, 3 D+, 4 ID, 5 GND

## USB_MICROB_PLUG-PTH
designator JP?, comment <h3>USB Micro-B Plug</h3> / Comes in a variety of packages.  Check out Hirose's ZX-x0 line: http://www.hirose.co.jp/cataloge_hp/e24200011.pdf
footprint MICRO-B-RA-TH
pins: 1 VCC, 2 D-, 3 D+, 4 ID, 5 GND

## USB_MICROB_PLUG-PTH2
designator JP?, comment <h3>USB Micro-B Plug</h3> / Comes in a variety of packages.  Check out Hirose's ZX-x0 line: http://www.hirose.co.jp/cataloge_hp/e24200011.pdf
footprint MICRO-B-TH
pins: 1 VCC, 2 D-, 3 D+, 4 ID, 5 GND

## USB_MICROB_PLUG-SMT
designator JP?, comment <h3>USB Micro-B Plug</h3> / Comes in a variety of packages.  Check out Hirose's ZX-x0 line: http://www.hirose.co.jp/cataloge_hp/e24200011.pdf
footprint MICRO-B-SMT
pins: 1 VCC, 2 D-, 3 D+, 4 ID, 5 GND

## USBA-SMD-MALE
designator JP?, comment <b>USB Connectors</b> / <p>USB-B-PTH is fully proven SKU : PRT-00139/CONN-08278 / <p>USB-miniB is fully proven SKU : PRT-00587 / <p>USB-A-PCB is untested. / <p>USB-A-H is throughly reviewed, but untested. Spark Fun Electronics SKU : PRT-00437 / <p>USB-B-SMT is throughly reviewed, but untested. Needs silkscreen touching up. / <p>USB-A-S has not been used/tested / <p>USB-MB-H has not been used/tested / <P>USB-MICROB has been used. CONN-09505
footprint USB-A-SMT-MALE
pins: D+1 D+, D-1 D-, GND1 GND, VBUS1 VBUS

## USBOLD
designator JP?, comment <b>USB Connectors</b> / <p>USB-B-PTH is fully proven SKU : PRT-00139/CONN-08278 / <p>USB-miniB is fully proven SKU : PRT-00587 / <p>USB-A-PCB is untested. / <p>USB-A-H is throughly reviewed, but untested. Spark Fun Electronics SKU : PRT-00437 / <p>USB-B-SMT is throughly reviewed, but untested. Needs silkscreen touching up. / <p>USB-A-S has not been used/tested / <p>USB-MB-H has not been used/tested / <P>USB-MICROB has been used. CONN-09505
footprint USB-MINIB-OLD
pins: D+, D-, GND, VBUS

## USBPCB
designator JP?, comment <b>USB Connectors</b> / <p>USB-B-PTH is fully proven SKU : PRT-00139/CONN-08278 / <p>USB-miniB is fully proven SKU : PRT-00587 / <p>USB-A-PCB is untested. / <p>USB-A-H is throughly reviewed, but untested. Spark Fun Electronics SKU : PRT-00437 / <p>USB-B-SMT is throughly reviewed, but untested. Needs silkscreen touching up. / <p>USB-A-S has not been used/tested / <p>USB-MB-H has not been used/tested / <P>USB-MICROB has been used. CONN-09505
footprint USB-A-PCB
pins: 5V VBUS, GND, USB_M D-, USB_P D+

## USBPTH
designator JP?, comment <b>USB Connectors</b> / <p>USB-B-PTH is fully proven SKU : PRT-00139/CONN-08278 / <p>USB-miniB is fully proven SKU : PRT-00587 / <p>USB-A-PCB is untested. / <p>USB-A-H is throughly reviewed, but untested. Spark Fun Electronics SKU : PRT-00437 / <p>USB-B-SMT is throughly reviewed, but untested. Needs silkscreen touching up. / <p>USB-A-S has not been used/tested / <p>USB-MB-H has not been used/tested / <P>USB-MICROB has been used. CONN-09505
PROD_ID: CONN-08278
footprint USB-B-PTH
pins: D+, D-, GND, VBUS

## USBPTH-VERTICAL
designator JP?, comment <b>USB Connectors</b> / <p>USB-B-PTH is fully proven SKU : PRT-00139/CONN-08278 / <p>USB-miniB is fully proven SKU : PRT-00587 / <p>USB-A-PCB is untested. / <p>USB-A-H is throughly reviewed, but untested. Spark Fun Electronics SKU : PRT-00437 / <p>USB-B-SMT is throughly reviewed, but untested. Needs silkscreen touching up. / <p>USB-A-S has not been used/tested / <p>USB-MB-H has not been used/tested / <P>USB-MICROB has been used. CONN-09505
footprint USB-B-PTH-VERTICAL
pins: D+, D-, GND, VBUS

## USBSMD
designator JP?, comment <b>USB Connectors</b> / <p>USB-B-PTH is fully proven SKU : PRT-00139/CONN-08278 / <p>USB-miniB is fully proven SKU : PRT-00587 / <p>USB-A-PCB is untested. / <p>USB-A-H is throughly reviewed, but untested. Spark Fun Electronics SKU : PRT-00437 / <p>USB-B-SMT is throughly reviewed, but untested. Needs silkscreen touching up. / <p>USB-A-S has not been used/tested / <p>USB-MB-H has not been used/tested / <P>USB-MICROB has been used. CONN-09505
footprint USB-MINIB
pins: D+, D-, GND, VBUS

## USBUSB-A-S-NOSILK
designator JP?, comment <b>USB Connectors</b> / <p>USB-B-PTH is fully proven SKU : PRT-00139/CONN-08278 / <p>USB-miniB is fully proven SKU : PRT-00587 / <p>USB-A-PCB is untested. / <p>USB-A-H is throughly reviewed, but untested. Spark Fun Electronics SKU : PRT-00437 / <p>USB-B-SMT is throughly reviewed, but untested. Needs silkscreen touching up. / <p>USB-A-S has not been used/tested / <p>USB-MB-H has not been used/tested / <P>USB-MICROB has been used. CONN-09505
footprint USB-A-S-NOSILK
pins: D+, D-, GND, VBUS

## USD-SOCKETNEW
designator U?, comment <b>microSD Socket</b> / Push-push type uSD socket. Schematic element and footprint production proven. Spark Fun Electronics SKU : PRT-00127. tDoc lines correctly indicate media card edge positions when inserting (unlocked, locked, depressed).
footprint MICRO-SD-SOCKET-PP
pins: 1 NC, 2 CS, 3 DI, 4 VCC, 5 SCK, 6 GND, 7 DO, 8 RSV, CD1 SHIELD, CD2 SHIELD, GND1 SHIELD, GND3 SHIELD

## USD-SOCKETUSD
designator U?, comment <b>microSD Socket</b> / Push-push type uSD socket. Schematic element and footprint production proven. Spark Fun Electronics SKU : PRT-00127. tDoc lines correctly indicate media card edge positions when inserting (unlocked, locked, depressed).
footprint USD-SOCKET-PP
pins: 1 NC, 2 CS, 3 DI, 4 VCC, 5 SCK, 6 GND, 7 DO, 8 RSV, CD1 SHIELD, CD2 SHIELD, GND1 SHIELD, GND2 SHIELD

## WATN001002BF
designator U?, comment connector for 10x2 16-segment E-paper Display (LCD-10150)<br> / <b>***Unproven!!!***</b>
footprint FFC26
pins: 1 V0, 2 V1, 3 V2, 4 VSSE, 5 VSS, 6 EIO1, 7 XCK, 8 VDD, 9 LATCH, 10 RESERVED, 11 SHL, 12 SLEEPB, 13 DLY0, 14 DLY1, 15 RESERVED, 16 DI0, 17 DI1, 18 DI2, 19 RESERVED, 20 EIO2, 21 VSS, 22 VSSE, 23 V2, 24 V1, 25 V0, 26 RESERVED

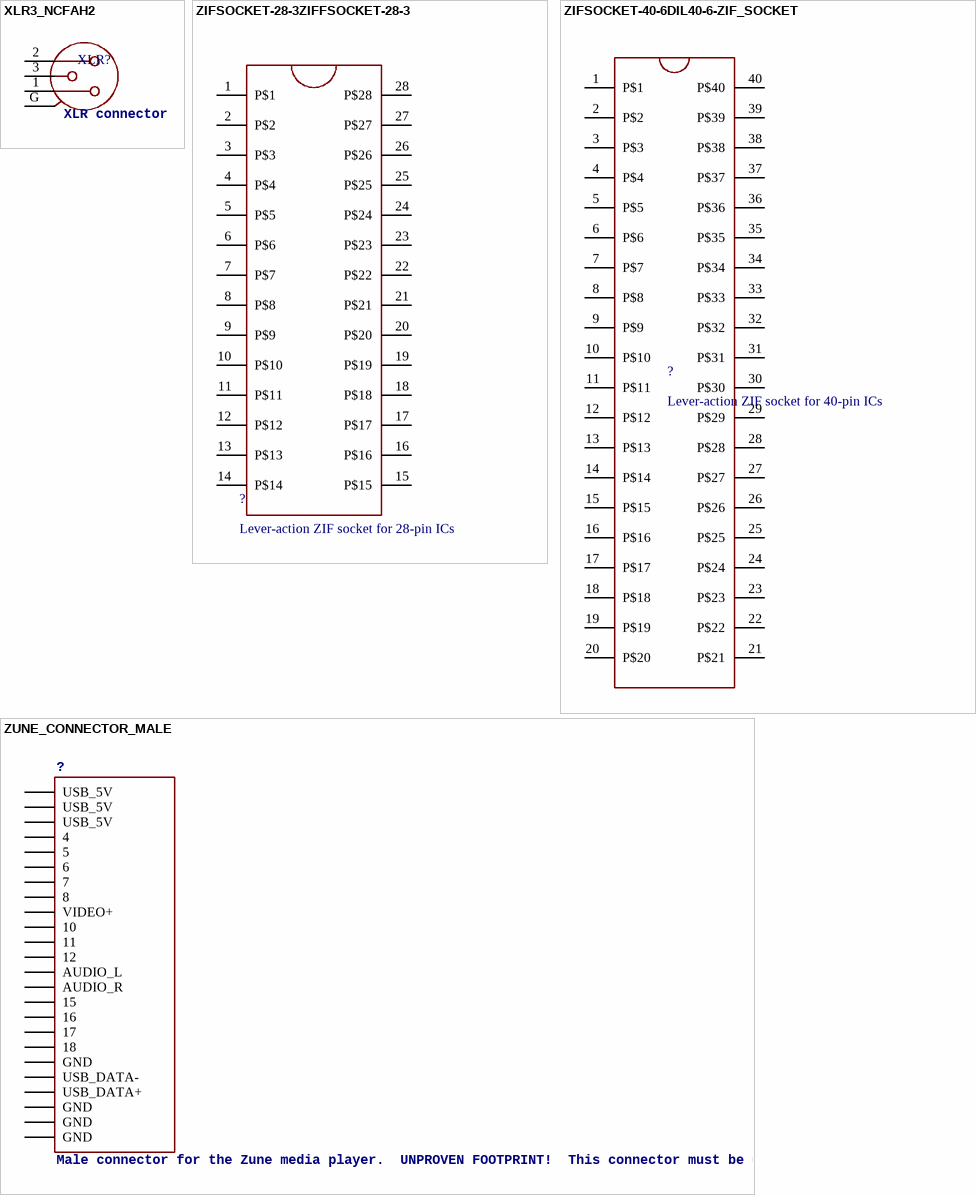
[diagram p9: symbols XLR3_NCFAH2 to ZUNE_CONNECTOR_MALE]

## XLR3_NCFAH2
designator XLR?, comment XLR connector
footprint XLR3_NC3FAH2
pins: 1, 2, 3, G

## ZIFSOCKET-28-3ZIFFSOCKET-28-3
designator ?, comment Lever-action ZIF socket for 28-pin ICs
footprint DIL28-3-ZIF_SOCKET
pins: 1 P$1, 2 P$2, 3 P$3, 4 P$4, 5 P$5, 6 P$6, 7 P$7, 8 P$8, 9 P$9, 10 P$10, 11 P$11, 12 P$12, 13 P$13, 14 P$14, 15 P$15, 16 P$16, 17 P$17, 18 P$18, 19 P$19, 20 P$20, 21 P$21, 22 P$22, 23 P$23, 24 P$24, 25 P$25, 26 P$26, 27 P$27, 28 P$28

## ZIFSOCKET-40-6DIL40-6-ZIF_SOCKET
designator ?, comment Lever-action ZIF socket for 40-pin ICs
footprint DIL40-6-ZIF_SOCKET
pins: 1 P$1, 2 P$2, 3 P$3, 4 P$4, 5 P$5, 6 P$6, 7 P$7, 8 P$8, 9 P$9, 10 P$10, 11 P$11, 12 P$12, 13 P$13, 14 P$14, 15 P$15, 16 P$16, 17 P$17, 18 P$18, 19 P$19, 20 P$20, 21 P$21, 22 P$22, 23 P$23, 24 P$24, 25 P$25, 26 P$26, 27 P$27, 28 P$28, 29 P$29, 30 P$30, 31 P$31, 32 P$32, 33 P$33, 34 P$34, 35 P$35, 36 P$36, 37 P$37, 38 P$38, 39 P$39, 40 P$40

## ZUNE_CONNECTOR_MALE
designator ?, comment Male connector for the Zune media player.  UNPROVEN FOOTPRINT!  This connector must be used only with a 1.2mm PCB thickness.
footprint ZUNE_CONNECTOR_MALE
pins: P$1 USB_5V, P$2 USB_5V, P$3 USB_5V, P$4 4, P$5 5, P$6 6, P$7 7, P$8 8, P$9 VIDEO+, P$10 10, P$11 11, P$12 12, P$13 AUDIO_L, P$14 AUDIO_R, P$15 15, P$16 16, P$17 17, P$18 18, P$19 GND, P$20 USB_DATA-, P$21 USB_DATA+, P$22 GND, P$23 GND, P$24 GND